# EAGLE library part LM5185QPWPRQ1 (library LM5185QPWPRQ1)
Switching Controllers PSR FLYBUCK CONTRL WITH EXTERNAL MOSFET Source: Datasheet <https://www.mouser.in/ProductDetail/Texas-Instruments/LM5185QPWPRQ1?qs=Z%2BL2brAPG1K5xXl7I70Yhw==>
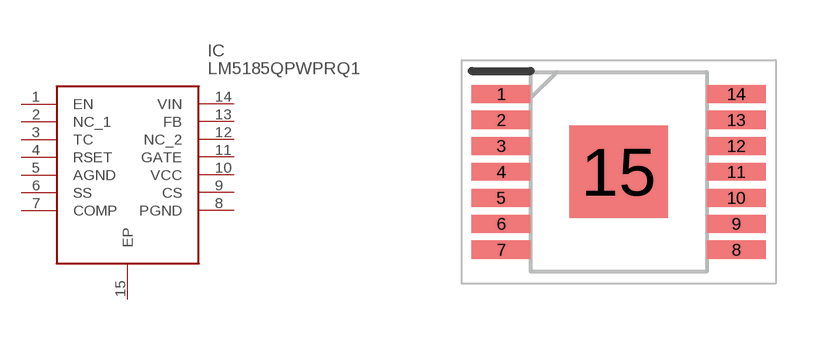
[diagram p0: symbol with the pads of SOP65P640X120-15N; footprint SOP65P640X120-15N]

Designator prefix IC

## LM5185QPWPRQ1 (Description: Switching Controllers PSR FLYBUCK CONTRL WITH EXTERNAL MOSFET; Height: 1.2mm; Manufacturer_Name: Texas Instruments; Manufacturer_Part_Number: LM5185QPWPRQ1; Mouser_Part_Number: 595-LM5185QPWPRQ1; Mouser_Price-Stock: https://www.mouser.co.uk/ProductDetail/Texas-Instruments/LM5185QPWPRQ1?qs=Z%252BL2brAPG1K5xXl7I70Yhw%3D%3D)  [SOP65P640X120-15N]
1  EN
2  NC_1
3  TC
4  RSET
5  AGND
6  SS
7  COMP
8  PGND
9  CS
10  VCC
11  GATE
12  NC_2
13  FB
14  VIN
15  EP

## Footprint SOP65P640X120-15N (pad centres in mm)
LM5185QPWPRQ1
smd 1.475 x 0.45: 1 -2.938,1.95; 2 -2.938,1.3; 3 -2.938,0.65; 4 -2.938,0; 5 -2.938,-0.65; 6 -2.938,-1.3; 7 -2.938,-1.95; 8 2.938,-1.95; 9 2.938,-1.3; 10 2.938,-0.65; 11 2.938,0; 12 2.938,0.65; 13 2.938,1.3; 14 2.938,1.95
smd 2.46 x 2.31: 15 0,0